# Altium footprint library telemetry_component_lib.PcbLib: 5 footprints
Each footprint in its own frame and in the unit in brackets; x right, y up, seen from the top. Pads: shape width x height; smd on the part's side, far side on the other; paste and mask are expansions set on the pad; w line width, h text height; cw(c..) or ccw(c..) is an arc to the next point about the centre after c.
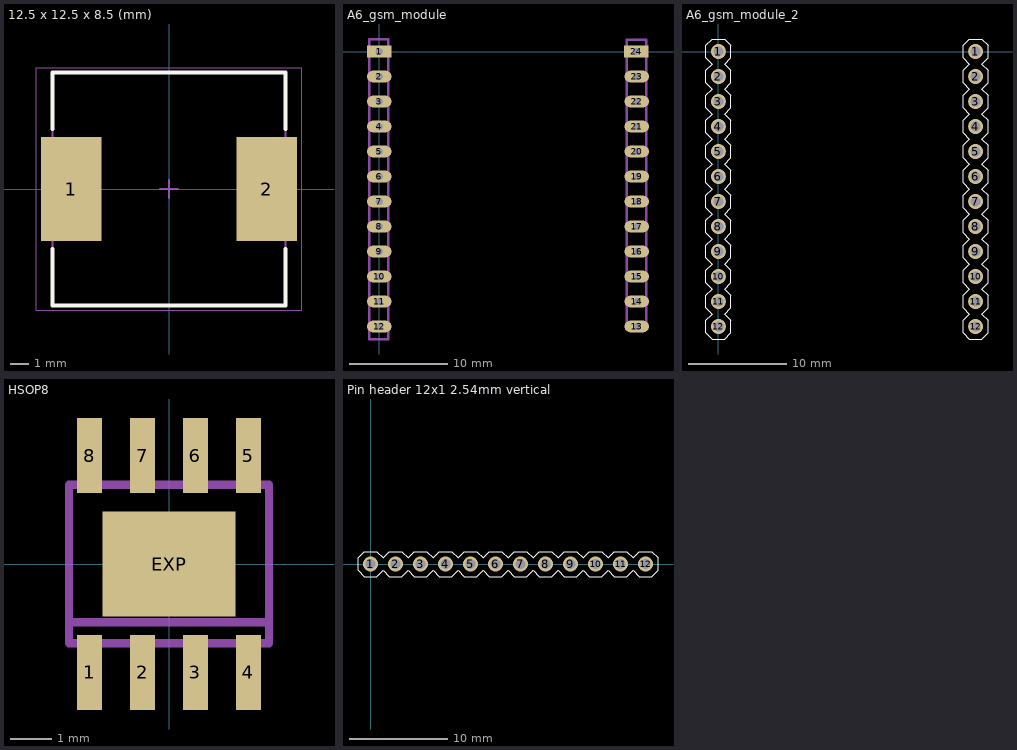
[diagram p0: the footprints below, top view; thin cyan lines are the x and y axes]

## 12.5 x 12.5 x 8.5 (mm) [mm] "Precision Wire Wound Inductor, 2-Leads, Body 12,50x12,50mm, IPC Medium Density"
height 8.5
pads (2):
  rect 3.25x5.6 smd: 1(-5.25,0) 2(5.25,0)
Top Overlay:
  lines w0.2: -6.25,-3.2 -6.25,-6.25 6.25,-6.25 6.25,-3.2 ; -6.25,3.2 -6.25,6.25 6.25,6.25 6.25,3.2
Mechanical 13:
  lines w0.1: -6.25,-6.25 -6.25,6.25 6.25,6.25 6.25,-6.25 -6.25,-6.25
Mechanical 15:
  lines w0.05: -7.125,-6.5 -7.125,6.5 7.125,6.5 7.125,-6.5 -7.125,-6.5
  lines w0.1: -0.5,0 0.5,0 ; 0,-0.5 0,0.5
3D body "INDP125125X85N.step": height 8.6, standoff 0, extent -6.35,-6.25 6.35,6.25

## A6_gsm_module [mm]
pads (24):
  rect 2.5x1.2 hole 0.75: 1(0,0) 24(26.121,0)
  oval 2.5x1.2 hole 0.75: 2(0,-2.54) 3(0,-5.08) 4(0,-7.62) 5(0,-10.16) 6(0,-12.7) 7(0,-15.24) 8(0,-17.78) 9(0,-20.32) 10(0,-22.86) 12(0,-27.94) 13(26.162,-27.94) 15(26.162,-22.86) 16(26.162,-20.32) 17(26.162,-17.78) 18(26.162,-15.24) 19(26.162,-12.7) 20(26.162,-10.16) 21(26.162,-7.62) 22(26.162,-5.08) 23(26.162,-2.54)
  oval 2.5x1.2 hole 0.75 paste+0: 11(0,-25.4) 14(26.162,-25.4)
Mechanical 1:
  lines w0.254: -1.016,-29.21 -1.016,1.27 0.924,1.27 0.924,-29.21 -1.016,-29.21 ; 25.137,-28.194 27.137,-28.194 27.137,1.194 25.137,1.194 25.137,-28.194
3D body: height 4.5, standoff 0, extent -1.067,-29.121 0.932,1.292
3D body: height 4.5, standoff 0, extent 25.163,-28.219 27.161,1.194

## A6_gsm_module_2 [mil] "AS lib järgi tehtud"
pads (24):
  round 60 hole 39.37 mask+1.97: 1(0,0) 1(1028.37,0) 2(0,-100) 2(1028.37,-100) 3(0,-200) 3(1028.37,-200) 4(0,-300) 4(1028.37,-300) 5(0,-400) 5(1028.37,-400) 6(0,-500) 6(1028.37,-500) 7(0,-600) 7(1028.37,-600) 8(0,-700) 8(1028.37,-700) 9(0,-800) 9(1028.37,-800) 10(0,-900) 10(1028.37,-900) 11(0,-1000) 11(1028.37,-1000) 12(0,-1100) 12(1028.37,-1100)
Top Overlay:
  lines w3.94: -50,-1125 -25,-1150 25,-1150 50,-1125 50,-1075 25,-1050 50,-1025 50,-975 25,-950 50,-925 50,-875 25,-850 50,-825 50,-775 25,-750 50,-725 50,-675 25,-650 50,-625 50,-575 25,-550 50,-525 50,-475 25,-450 50,-425 50,-375 25,-350 50,-325 50,-275 25,-250 50,-225 50,-175 25,-150 50,-125 50,-75 25,-50 50,-25 50,25 25,50 -25,50 -50,25 -50,-25 -25,-50 -50,-75 -50,-125 -25,-150 -50,-175 -50,-225 -25,-250 -50,-275 -50,-325 -25,-350 -50,-375 -50,-425 -25,-450 -50,-475 -50,-525 -25,-550 -50,-575 -50,-625 -25,-650 -50,-675 -50,-725 -25,-750 -50,-775 -50,-825 -25,-850 -50,-875 -50,-925 -25,-950 -50,-975 -50,-1025 -25,-1050 -50,-1075 -50,-1125 ; 978.37,-1125 978.37,-1075 1003.37,-1050 978.37,-1025 978.37,-975 1003.37,-950 978.37,-925 978.37,-875 1003.37,-850 978.37,-825 978.37,-775 1003.37,-750 978.37,-725 978.37,-675 1003.37,-650 978.37,-625 978.37,-575 1003.37,-550 978.37,-525 978.37,-475 1003.37,-450 978.37,-425 978.37,-375 1003.37,-350 978.37,-325 978.37,-275 1003.37,-250 978.37,-225 978.37,-175 1003.37,-150 978.37,-125 978.37,-75 1003.37,-50 978.37,-25 978.37,25 1003.37,50 1053.37,50 1078.37,25 1078.37,-25 1053.37,-50 1078.37,-75 1078.37,-125 1053.37,-150 1078.37,-175 1078.37,-225 1053.37,-250 1078.37,-275 1078.37,-325 1053.37,-350 1078.37,-375 1078.37,-425 1053.37,-450 1078.37,-475 1078.37,-525 1053.37,-550 1078.37,-575 1078.37,-625 1053.37,-650 1078.37,-675 1078.37,-725 1053.37,-750 1078.37,-775 1078.37,-825 1053.37,-850 1078.37,-875 1078.37,-925 1053.37,-950 1078.37,-975 1078.37,-1025 1053.37,-1050 1078.37,-1075 1078.37,-1125 1053.37,-1150 1003.37,-1150 978.37,-1125
3D body "User Library-Header_Male_4Pin.STEP": height 336.22, standoff -118.11, extent -49.01,-750.01 49.02,-350.01
3D body "User Library-Header_Male_4Pin.STEP": height 336.22, standoff -118.11, extent -49.01,-350.01 49.02,49.99
3D body "User Library-Header_Male_4Pin.STEP": height 336.22, standoff -118.11, extent -49.01,-1150.01 49.02,-750.01
3D body "User Library-Header_Male_4Pin.STEP": height 336.22, standoff -118.11, extent 979.36,-1150.01 1077.39,-750.01
3D body "User Library-Header_Male_4Pin.STEP": height 336.22, standoff -118.11, extent 979.36,-350.01 1077.39,49.99
3D body "User Library-Header_Male_4Pin.STEP": height 336.22, standoff -118.11, extent 979.36,-750.01 1077.39,-350.01

## HSOP8 [mm]
pads (9):
  rect 0.6x1.8 smd paste-25.4 mask-25.4: 1(-1.905,-2.6) 2(-0.635,-2.6) 3(0.635,-2.6) 4(1.905,-2.6) 5(1.905,2.6) 6(0.635,2.6) 7(-0.635,2.6) 8(-1.905,2.6)
  rect 3.2x2.51 smd paste-25.4 mask-25.4: EXP(0,0)
Top Paste:
  region: -0.935,-3.5 -0.335,-3.5 -0.335,-1.7 -0.935,-1.7
  region: -0.935,1.7 -0.335,1.7 -0.335,3.5 -0.935,3.5
  region: -2.205,-3.5 -1.605,-3.5 -1.605,-1.7 -2.205,-1.7
  region: 0.335,-3.5 0.935,-3.5 0.935,-1.7 0.335,-1.7
  region: 1.605,-3.5 2.205,-3.5 2.205,-1.7 1.605,-1.7
  region: -2.205,1.7 -1.605,1.7 -1.605,3.5 -2.205,3.5
  region: 0.335,1.7 0.935,1.7 0.935,3.5 0.335,3.5
  region: 1.605,1.7 2.205,1.7 2.205,3.5 1.605,3.5
  region: -1.6,-1.255 1.6,-1.255 1.6,1.255 -1.6,1.255
Top Solder:
  region: -1.035,-3.6 -0.235,-3.6 -0.235,-1.6 -1.035,-1.6
  region: -1.035,1.6 -0.235,1.6 -0.235,3.6 -1.035,3.6
  region: -2.305,-3.6 -1.505,-3.6 -1.505,-1.6 -2.305,-1.6
  region: 0.235,-3.6 1.035,-3.6 1.035,-1.6 0.235,-1.6
  region: 1.505,-3.6 2.305,-3.6 2.305,-1.6 1.505,-1.6
  region: -2.305,1.6 -1.505,1.6 -1.505,3.6 -2.305,3.6
  region: 0.235,1.6 1.035,1.6 1.035,3.6 0.235,3.6
  region: 1.505,1.6 2.305,1.6 2.305,3.6 1.505,3.6
  region: -1.7,-1.355 1.7,-1.355 1.7,1.355 -1.7,1.355
Mechanical 1:
  lines w0.203: -2.4,-1.4 -2.4,-1.9 2.4,-1.9 2.4,-1.4 ; -2.4,-1.4 -2.4,1.9 2.4,1.9 2.4,-1.4 ; -2.4,-1.4 2.4,-1.4

## Pin header 12x1 2.54mm vertical [mil]
pads (12):
  round 60 hole 39.37 mask+1.97: 1(0,0) 2(100,0) 3(200,0) 4(300,0) 5(400,0) 6(500,0) 7(600,0) 8(700,0) 9(800,0) 10(900,0) 11(1000,0) 12(1100,0)
Top Overlay:
  lines w3.94: -50,-25 -50,25 -25,50 25,50 50,25 75,50 125,50 150,25 175,50 225,50 250,25 275,50 325,50 350,25 375,50 425,50 450,25 475,50 525,50 550,25 575,50 625,50 650,25 675,50 725,50 750,25 775,50 825,50 850,25 875,50 925,50 950,25 975,50 1025,50 1050,25 1075,50 1125,50 1150,25 1150,-25 1125,-50 1075,-50 1050,-25 1025,-50 975,-50 950,-25 925,-50 875,-50 850,-25 825,-50 775,-50 750,-25 725,-50 675,-50 650,-25 625,-50 575,-50 550,-25 525,-50 475,-50 450,-25 425,-50 375,-50 350,-25 325,-50 275,-50 250,-25 225,-50 175,-50 150,-25 125,-50 75,-50 50,-25 25,-50 -25,-50 -50,-25
3D body "User Library-Header_Male_4Pin.STEP": height 336.22, standoff -118.11, extent 350.01,-49.01 750.01,49.02
3D body "User Library-Header_Male_4Pin.STEP": height 336.22, standoff -118.11, extent -49.99,-49.01 350.01,49.02
3D body "User Library-Header_Male_4Pin.STEP": height 336.22, standoff -118.11, extent 750.01,-49.01 1150.01,49.02